# Altium schematic symbol library Termometr_BLE_lib_sch.SchLib: 6 symbols
Pins are listed as number, name and electrical type; pins without a type are passive.

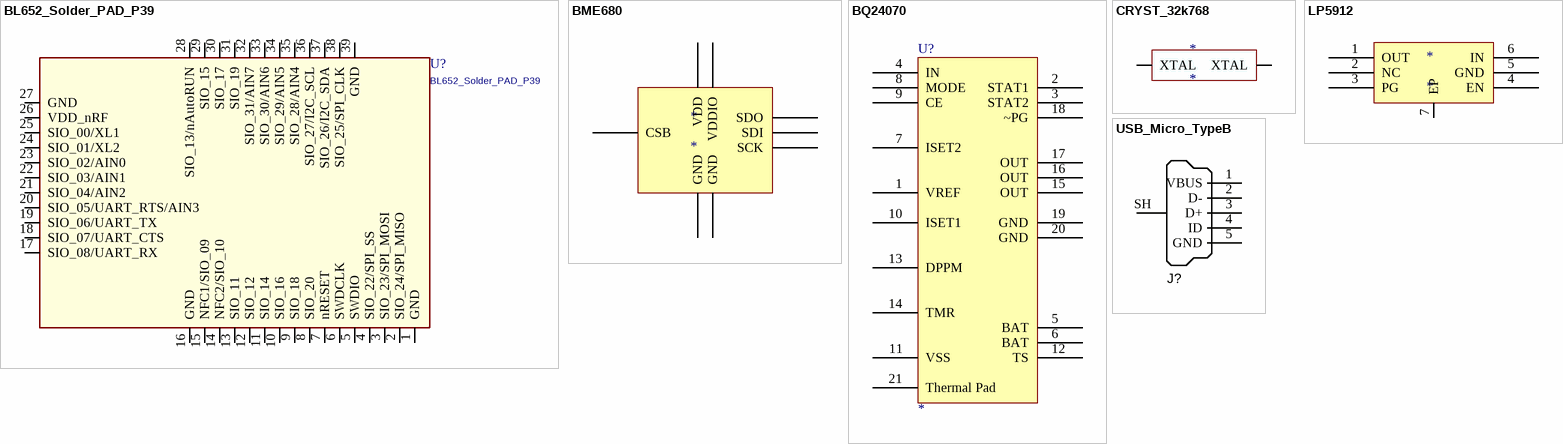
[diagram p0: symbols BL652_Solder_PAD_P39 to USB_Micro_TypeB]

## BL652_Solder_PAD_P39
designator U?
BL652 Solder PAD; E Number: ?
footprint XCVR_BL652-SA-01
pins: 1 GND, 2 SIO_24/SPI_MISO, 3 SIO_23/SPI_MOSI, 4 SIO_22/SPI_SS, 5 SWDIO, 6 SWDCLK, 7 nRESET, 8 SIO_20, 9 SIO_18, 10 SIO_16, 11 SIO_14, 12 SIO_12, 13 SIO_11, 14 NFC2/SIO_10, 15 NFC1/SIO_09, 16 GND, 17 SIO_08/UART_RX, 18 SIO_07/UART_CTS, 19 SIO_06/UART_TX, 20 SIO_05/UART_RTS/AIN3, 21 SIO_04/AIN2, 22 SIO_03/AIN1, 23 SIO_02/AIN0, 24 SIO_01/XL2, 25 SIO_00/XL1, 26 VDD_nRF, 27 GND, 28 SIO_13/nAutoRUN, 29 SIO_15, 30 SIO_17, 31 SIO_19, 32 SIO_31/AIN7, 33 SIO_30/AIN6, 34 SIO_29/AIN5, 35 SIO_28/AIN4, 36 SIO_27/I2C_SCL, 37 SIO_26/I2C_SDA, 38 SIO_25/SPI_CLK, 39 GND

## BME680
designator *
footprint BME680
pins: 1 GND, 2 CSB, 3 SDI, 4 SCK, 5 SDO, 6 VDDIO, 7 GND, 8 VDD

## BQ24070
designator U?
BQ24070
footprint BQ24070
pins: 1 VREF, 2 STAT1, 3 STAT2, 4 IN, 5 BAT, 6 BAT, 7 ISET2, 8 MODE, 9 CE, 10 ISET1, 11 VSS, 12 TS, 13 DPPM, 14 TMR, 15 OUT, 16 OUT, 17 OUT, 18 ~PG, 19 GND, 20 GND, 21 Thermal Pad

## CRYST_32k768
designator *
footprint CRYST 32.768 kHz
pins: 1 XTAL, 2 XTAL

## LP5912
designator *
footprint WSON-6
pins: 1 OUT, 2 NC, 3 PG, 4 EN, 5 GND, 6 IN, 7 EP

## USB_Micro_TypeB
designator J?, comment USB Micro Type B  (value not drawn)
Connector SMD USB Micro Type B middle mount; Manufacturer 1: Molex Inc; SCDType: undef; Package / Case: SMD; Supplier 1: Digi-Key; Supplier Part Number 1: WM17142CT-ND
footprint USB_Micro-B_Molex_SMD
footprint USB_Micro-B
pins: 1 VBUS, 2 D-, 3 D+, 4 ID, 5 GND, SH Shell